# Altium footprint library SRN4018.PcbLib: 1 footprints
Each footprint in its own frame and in the unit in brackets; x right, y up, seen from the top. Pads: shape width x height; smd on the part's side, far side on the other; paste and mask are expansions set on the pad; w line width, h text height; cw(c..) or ccw(c..) is an arc to the next point about the centre after c.
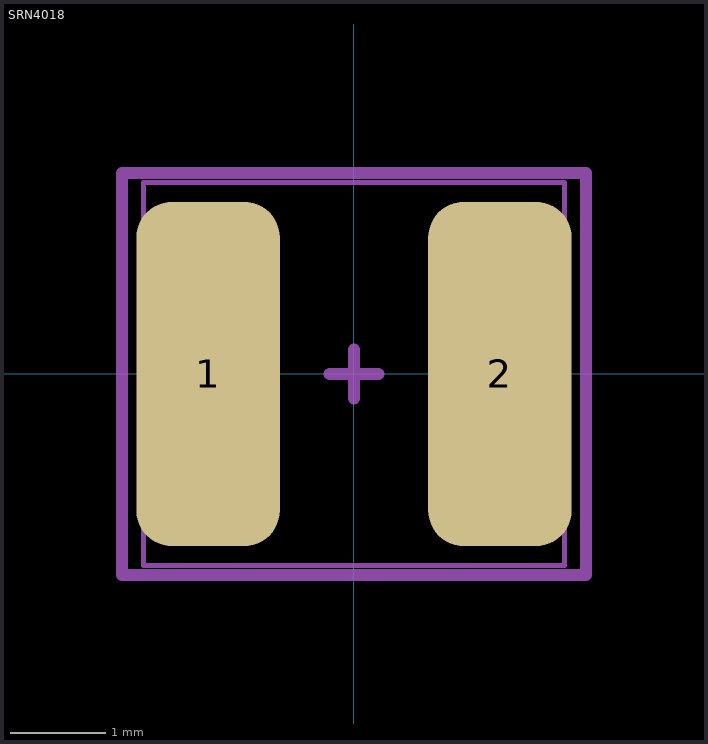
[diagram p0: the footprint, top view; thin cyan lines are the x and y axes]

## SRN4018 [mm]
pads (2):
  rrect50% 1.5x3.6 smd mask+0.07: 1(-1.525,0) 2(1.525,0)
Mechanical 13:
  lines w0.051: -2.2,-2 -2.2,2 2.2,2 2.2,-2 -2.2,-2
Mechanical 15:
  lines w0.127: -0.254,0 0.254,0 ; 0,-0.254 0,0.254 ; -2.425,-2.1 -2.425,2.1 2.425,2.1 2.425,-2.1 -2.425,-2.1
Mechanical 17:
  text "'.Designator'" at -0.975,-0.075 h0.2
3D body "srn4018.stp": height 1.8, standoff 0, extent -2.2,-2 2.2,2